# EAGLE library part WG12864 (library growbot)
128 X 64 Dots Graphic разъем переделан под установку PBS-20 или под 24-пиновый 2514
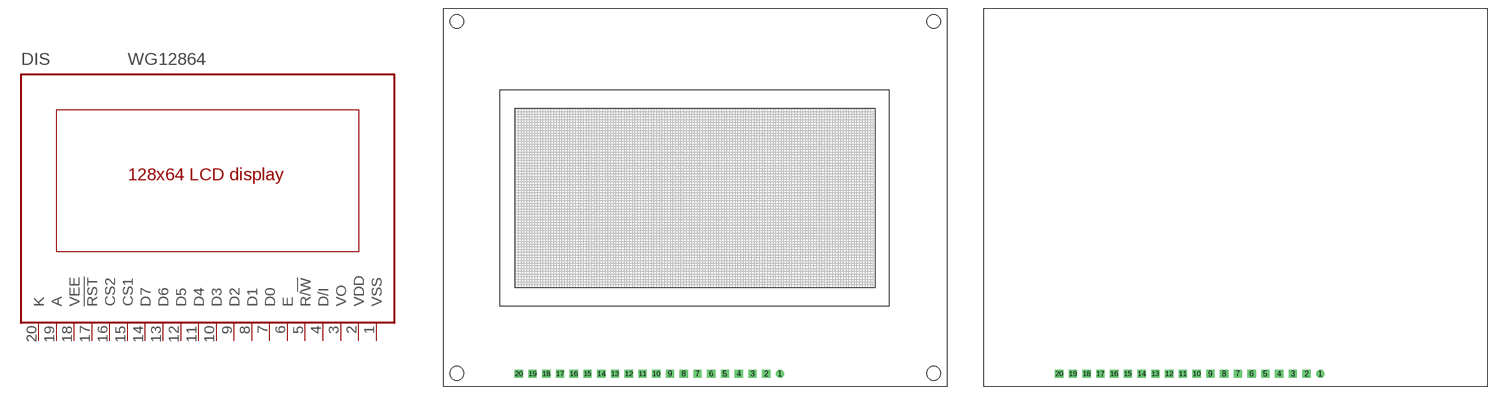
[diagram p6: symbol with the pads of WG12864A; footprints WG12864A, WG12864A_LP]

Designator prefix DIS

## WG12864A (OC_FARNELL: unknown; OC_NEWARK: unknown)  [WG12864A]
1  VSS  pwr
2  VDD  pwr
3  VO  pas
4  D/I  in
5  R/!W  in
6  E  in
7  D0
8  D1
9  D2
10  D3
11  D4
12  D5
13  D6
14  D7
15  CS1  in
16  CS2  in
17  !RST  in
18  VEE  out
19  A  pas
20  K  pas

## WG12864A_LP  [WG12864A_LP]
Pads as for WG12864A

## WG12864_SCHLEIF  [WG12864A_SCHLEIF]
Pads as for WG12864A

## WG12864  [WG12864_WITH_HOLES]
Pads as for WG12864A

## Footprint WG12864A (pad centres in mm)
WG12864A 128 X 64 Dots Graphic
drill 1 octagon: 1 0,0
drill 1 square: 2 -2.54,0; 3 -5.08,0; 4 -7.62,0; 5 -10.16,0; 6 -12.7,0; 7 -15.24,0; 8 -17.78,0; 9 -20.32,0; 10 -22.86,0; 11 -25.4,0; 12 -27.94,0; 13 -30.48,0; 14 -33.02,0; 15 -35.56,0; 16 -38.1,0; 17 -40.64,0; 18 -43.18,0; 19 -45.72,0; 20 -48.26,0
hole 2.5 at -59.66,0.1
hole 2.5 at 28.34,0.1
hole 2.5 at -59.66,65.1
hole 2.5 at 28.34,65.1

## Footprint WG12864A_LP (pad centres in mm)
drill 1 octagon: 1 0,0
drill 1 square: 2 -2.54,0; 3 -5.08,0; 4 -7.62,0; 5 -10.16,0; 6 -12.7,0; 7 -15.24,0; 8 -17.78,0; 9 -20.32,0; 10 -22.86,0; 11 -25.4,0; 12 -27.94,0; 13 -30.48,0; 14 -33.02,0; 15 -35.56,0; 16 -38.1,0; 17 -40.64,0; 18 -43.18,0; 19 -45.72,0; 20 -48.26,0

## Footprint WG12864A_SCHLEIF (pad centres in mm)
drill 1 octagon: 1 -11.43,-1.27
drill 1: 2 -11.43,1.27; 3 -8.89,-1.27; 4 -8.89,1.27; 5 -6.35,-1.27; 6 -6.35,1.27; 7 -3.81,-1.27; 8 -3.81,1.27; 9 -1.27,-1.27; 10 -1.27,1.27; 11 1.27,-1.27; 12 1.27,1.27; 13 3.81,-1.27; 14 3.81,1.27; 15 6.35,-1.27; 16 6.35,1.27; 17 8.89,-1.27; 18 8.89,1.27; 19 11.43,-1.27; 20 11.43,1.27

## Footprint WG12864_WITH_HOLES (pad centres in mm)
drill 1 octagon: 1 17.78,-31.75
drill 1 square: 2 15.24,-31.75; 3 12.7,-31.75; 4 10.16,-31.75; 5 7.62,-31.75; 6 5.08,-31.75; 7 2.54,-31.75; 8 0,-31.75; 9 -2.54,-31.75; 10 -5.08,-31.75; 11 -7.62,-31.75; 12 -10.16,-31.75; 13 -12.7,-31.75; 14 -15.24,-31.75; 15 -17.78,-31.75; 16 -20.32,-31.75; 17 -22.86,-31.75; 18 -25.4,-31.75; 19 -27.94,-31.75; 20 -30.48,-31.75
hole 2.5 at -41.88,-31.65
hole 2.5 at 46.12,-31.65
hole 2.5 at -41.88,33.35
hole 2.5 at 46.12,33.35